# Altium schematic symbol library CAN_SchematicLib.SchLib: 5 symbols
Pins are listed as number, name and electrical type; pins without a type are passive.

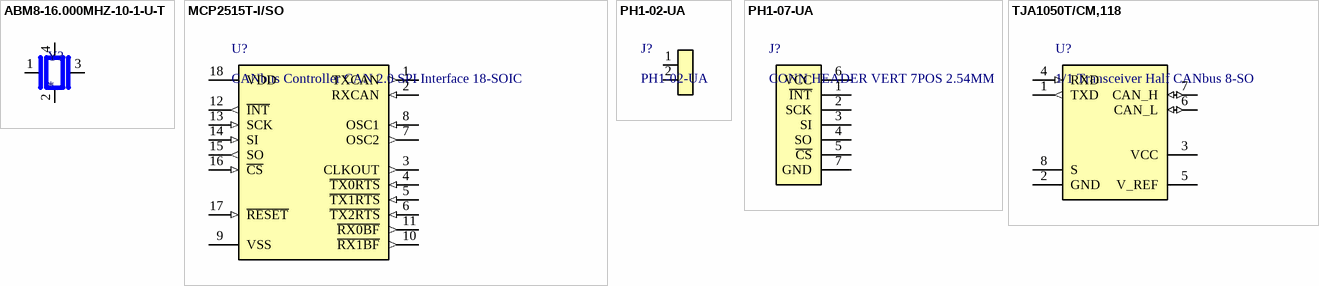
[diagram p0: symbols ABM8-16.000MHZ-10-1-U-T to TJA1050T/CM,118]

## ABM8-16.000MHZ-10-1-U-T
designator Y?
16 MHz Â±10ppm Crystal 10pF 70 Ohms 4-SMD, No Lead; MF: Abracon; MP: ABM8-16.000MHZ-10-1-U-T; SnapEDA_Link: https://www.snapeda.com/parts/ABM8-16.000MHZ-10-1-U-T/Abracon/view-part/?ref=snap; Package: NON-STANDARD-4 ABRACON; Value: *; Check_prices: https://www.snapeda.com/parts/ABM8-16.000MHZ-10-1-U-T/Abracon/view-part/?ref=eda
footprint XTAL_ABM8-16.000MHZ-10-1-U-T
pins: 1, 2 GND (power), 3 2, 4 GND (power)

## MCP2515T-I/SO
designator U?, comment CANbus Controller CAN 2.0 SPI Interface 18-SOIC
CAN controller w/ SPI interface18 SOIC .300in T/R | Microchip Technology Inc. MCP2515T-I/SO; SnapEDA_Link: https://www.snapeda.com/parts/MCP2515T-I/SO/Microchip/view-part/?ref=snap; Package: SOIC-18 Microchip; Value: *; MF: Microchip; MP: MCP2515T-I/SO; Check_prices: https://www.snapeda.com/parts/MCP2515T-I/SO/Microchip/view-part/?ref=eda
footprint SOIC18-1.27-11.5X7.5MM
pins: 1 TXCAN (out), 2 RXCAN (in), 3 CLKOUT (out), 4 ~{TX0RTS} (in), 5 ~{TX1RTS} (in), 6 ~{TX2RTS} (in), 7 OSC2 (out), 8 OSC1 (in), 9 VSS (power), 10 ~{RX1BF} (out), 11 ~{RX0BF} (out), 12 ~{INT} (out), 13 SCK (in), 14 SI (in), 15 SO (out), 16 ~{CS} (in), 17 ~{RESET} (in), 18 VDD (power)

## PH1-02-UA
designator J?
No Description Available; Manufacturer_Name: ADAM TECHNOLOGIES INC; Type: Headers, Male Pins; Copyright: Copyright (C) 2026 Ultra Librarian. All rights reserved.; Manufacturer_Part_Number: PH1-02-UA; Digi-Key_Part_Number_1: 2057-PH1-02-UA-ND; RefDes: RefDes
footprint CONN_PH1-02-UA_ADM
pins: 1, 2

## PH1-07-UA
designator J?, comment CONN HEADER VERT 7POS 2.54MM
Manufacturer_Name: ADAM TECHNOLOGIES INC; Manufacturer_Part_Number: PH1-07-UA; Type: Headers, Male Pins; Copyright: Copyright (C) 2026 Ultra Librarian. All rights reserved.; Digi-Key_Part_Number_1: 2057-PH1-07-UA-ND; RefDes: RefDes
footprint CONN_PH1-07-UA_ADM
pins: 1 ~{INT}, 2 SCK, 3 SI, 4 SO, 5 ~{CS}, 6 VCC, 7 GND

## TJA1050T/CM,118
designator U?, comment 1/1 Transceiver Half CANbus 8-SO
TJA1050T Series 5.25 V 1 MBd Surface Mount High Speed CAN Transceiver - SOIC-8; Manufacturer: NXP Semiconductors; Manufacturer Part Number: TJA1050T/CM,118; Data Rate: 1Mbps; Max Junction Temperature (Tj): 150°C; Max Supply Current: 75µA; Max Supply Voltage: 5.25V; Min Supply Voltage: 4.75V; Nominal Supply Current: 10mA; Nominal Supply Voltage (DC): 5V; Number of Circuits: 1; Receiver Hysteresis: 70mV; Simplex/Duplex: Half Duplex; Supplier 1: Future Electronics; RoHS: Compliant; Category: CAN Transceivers; Stock 1: 130000; Pricing 1: 2500=0,93, 5000=0,92, 7500=0,905 (USD); Case/Package: SOP; China RoHS: Compliant; Contact Plating: Gold, Silver; Country of Origin: Thailand; Export Control Classification Number (ECCN) Code: EAR99; Height: 1.75mm; Height - Seated (Max): 1.75mm; Harmonized Tariff Schedule (HTS) Code: 8542.39.00.01; Interface: CAN; Introduction Date: 2003-10-24; Lead Free: Lead Free; Length: 4.9mm; Lifecycle Status: NRND; Max Operating Temperature: 125°C; Min Operating Temperature: -40°C; Mounting Technology: Surface Mount; Pins: 8; Number of Receive Buffers: 1; Number of Terminals: 8; Number of Transceivers: 1; Number of Transmit Buffers: 1; Radiation Hardening: No; REACH SVHC: Yes; Schedule B: 8542390000, 8542390000|8542390000|8542390000|8542390000|8542390000; Temperature Grade: Automotive; Terminal Pitch: 1.27mm; Width: 3.9mm; ComponentLink1URL: https://datasheet.octopart.com:443/TJA1050T-CM%2C118-NXP-Semiconductors-datasheet-48387.pdf?src-supplier=LCSC; ComponentLink1Description: https://datasheet.octopart.com:443/TJA1050T-CM%2C118-NXP-Semiconductors-datasheet-48387.pdf?src-supplier=LCSC; ComponentLink2URL: https://sigma.octopart.com:443/138890721/technical_drawing/NXP-Semiconductors-TJA1050T-CM%2C118.pdf?src-supplier=Upverter; ComponentLink2Description: https://sigma.octopart.com:443/138890721/technical_drawing/NXP-Semiconductors-TJA1050T-CM%2C118.pdf?src-supplier=Upverter; ComponentLink3URL: https://datasheet.octopart.com:443/TJA1050T-CM%2C118-NXP-Semiconductors-datasheet-180936223.pdf?src-supplier=IHS; ComponentLink3Description: https://datasheet.octopart.com:443/TJA1050T-CM%2C118-NXP-Semiconductors-datasheet-180936223.pdf?src-supplier=IHS; ComponentLink4URL: http://sigma.octopart.com:80/reach_statement/NXP-Semiconductors-company-13.pdf?src-supplier=Compliance+Statements; ComponentLink4Description: http://sigma.octopart.com:80/reach_statement/NXP-Semiconductors-company-13.pdf?src-supplier=Compliance+Statements; ComponentLink5URL: http://sigma.octopart.com:80/rohs_statement/NXP-Semiconductors-company-12.pdf?src-supplier=Compliance+Statements; ComponentLink5Description: http://sigma.octopart.com:80/rohs_statement/NXP-Semiconductors-company-12.pdf?src-supplier=Compliance+Statements; Supplier Part Number 1: TJA1050T/CM,118
footprint SOIC8
pins: 1 TXD (out), 2 GND (power), 3 VCC (power), 4 RXD (in), 5 V_REF (power), 6 CAN_L (io), 7 CAN_H (io), 8 S